# Altium footprint library JST SH connector.PcbLib: 29 footprints (part 2 of 2)
Each footprint in its own frame and in the unit in brackets; x right, y up, seen from the top. Pads: shape width x height; smd on the part's side, far side on the other; paste and mask are expansions set on the pad; w line width, h text height; cw(c..) or ccw(c..) is an arc to the next point about the centre after c.
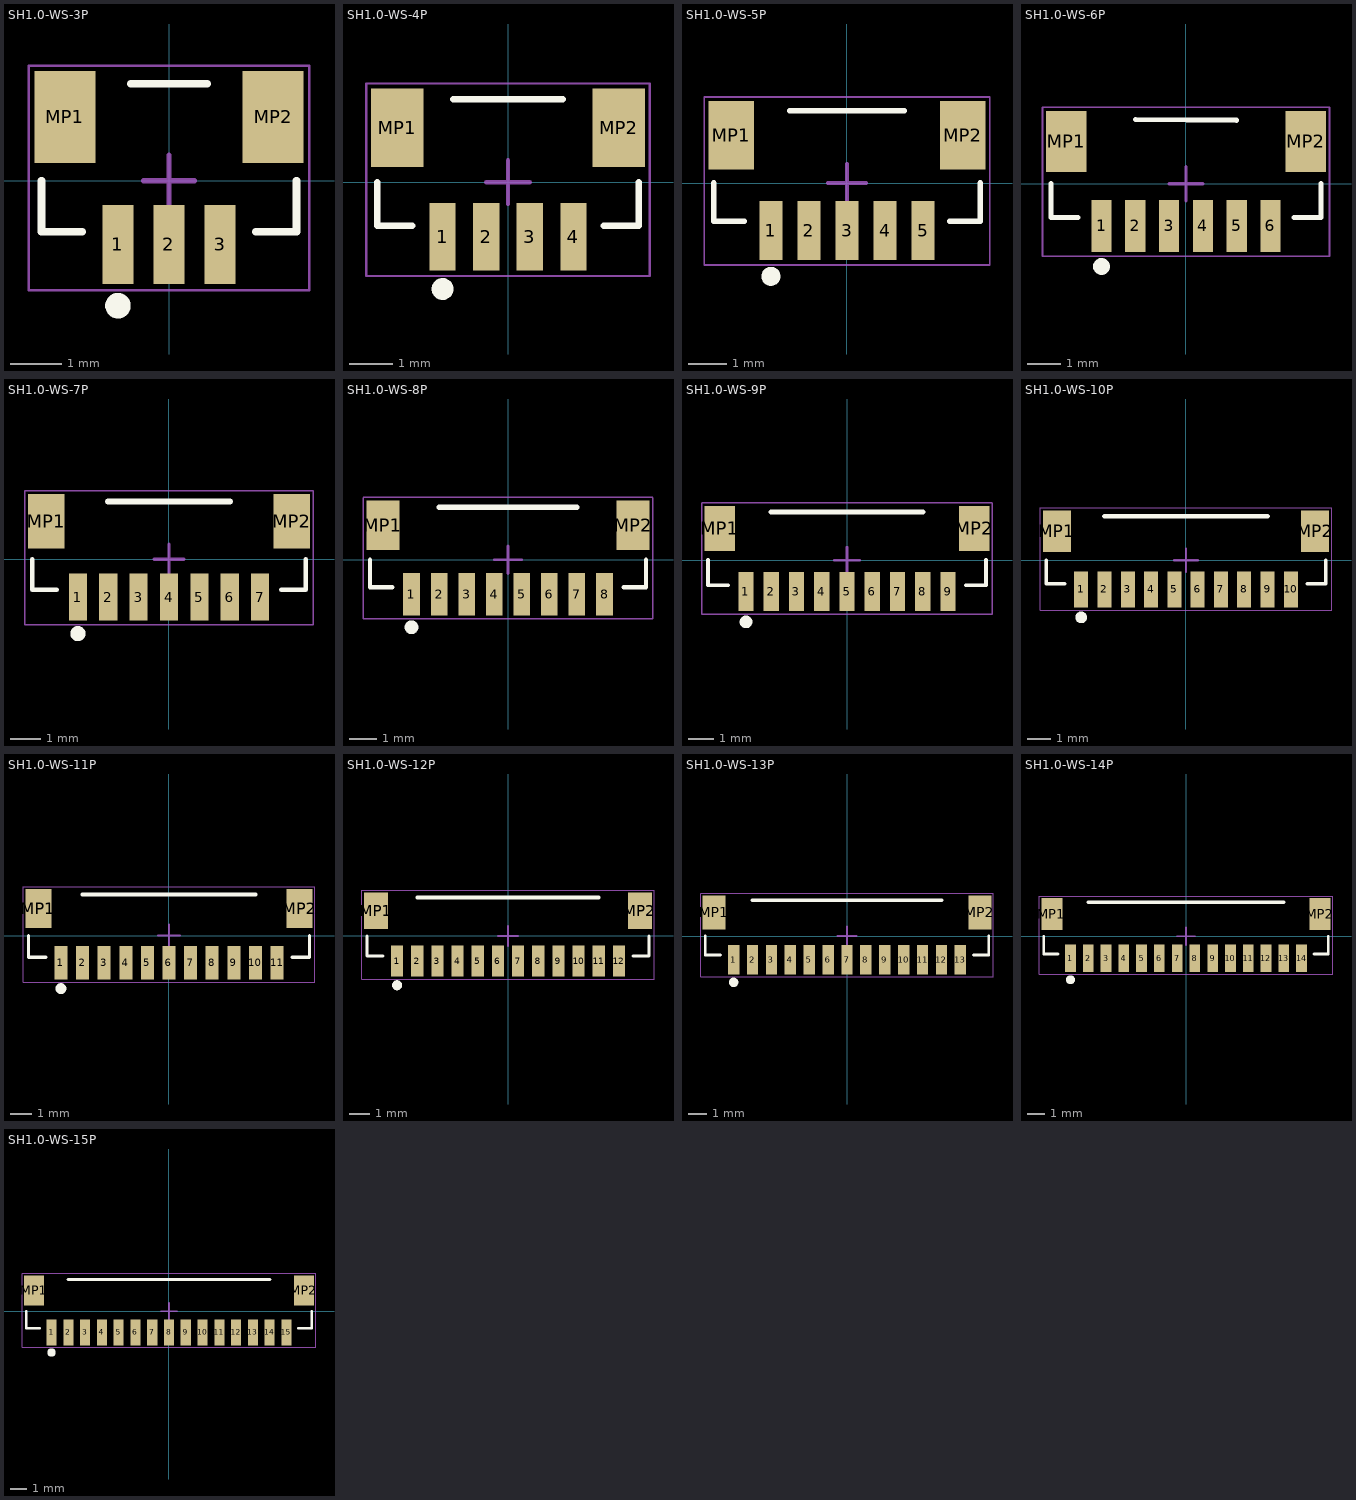
[diagram p1: the footprints below, top view; thin cyan lines are the x and y axes]

## SH1.0-WS-3P [mm]
pads (5):
  rect 0.6x1.55 smd: 1(-1,-1.25) 2(0,-1.25) 3(1,-1.25)
  rect 1.2x1.8 smd: MP1(-2.04,1.25) MP2(2.04,1.25)
Top Overlay:
  circle w0.25: c-1,-2.45 r0.125
  lines w0.15: -2.5,0 -2.5,-1 -1.7,-1 ; -0.75,1.9 0.75,1.9 ; 1.7,-1 2.5,-1 2.5,0
Mechanical 15:
  lines w0.05: -2.75,-2.149 2.75,-2.149 2.75,2.251 -2.75,2.251 -2.75,-2.149
  lines w0.1: -0.5,0 0.5,0 ; 0,-0.5 0,0.5
3D body "BM03B-SRSS-TB.STEP": height 4.3, standoff -0.02, extent -2.5,-1.7 2.5,1.9

## SH1.0-WS-4P [mm]
pads (6):
  rect 0.6x1.55 smd: 1(-1.5,-1.25) 2(-0.5,-1.25) 3(0.5,-1.25) 4(1.5,-1.25)
  rect 1.2x1.8 smd: MP1(-2.54,1.25) MP2(2.54,1.25)
Top Overlay:
  circle w0.25: c-1.5,-2.45 r0.125
  lines w0.15: -3,0 -3,-1 -2.2,-1 ; -1.25,1.9 1.25,1.9 ; 2.2,-1 3,-1 3,0
Mechanical 15:
  lines w0.05: -3.25,2.25 -3.25,-2.15 3.25,-2.15 3.25,2.25 ; -3.25,2.262 3.25,2.262
  lines w0.1: -0.5,0 0.5,0 ; 0,-0.5 0,0.5
3D body "BM04B-SRSS-TB.STEP": height 4.3, standoff -0.02, extent -3,-1.7 3,1.9

## SH1.0-WS-5P [mm]
pads (7):
  rect 0.6x1.55 smd: 1(-2,-1.25) 2(-1,-1.25) 3(0,-1.25) 4(1,-1.25) 5(2,-1.25)
  rect 1.2x1.8 smd: MP1(-3.04,1.25) MP2(3.04,1.25)
Top Overlay:
  circle w0.25: c-2,-2.45 r0.125
  lines w0.15: -3.5,0 -3.5,-1 -2.7,-1 ; -1.5,1.9 1.5,1.9 ; 2.7,-1 3.5,-1 3.5,0
Mechanical 15:
  lines w0.05: -3.75,2.25 -3.75,-2.15 3.75,-2.15 3.75,2.25 ; -3.75,2.262 3.75,2.262
  lines w0.1: -0.5,0 0.5,0 ; 0,-0.5 0,0.5
3D body "BM05B-SRSS-TB.STEP": height 4.3, standoff -0.02, extent -3.5,-1.7 3.5,1.9

## SH1.0-WS-6P [mm]
pads (8):
  rect 0.6x1.55 smd: 1(-2.5,-1.25) 2(-1.5,-1.25) 3(-0.5,-1.25) 4(0.5,-1.25) 5(1.5,-1.25) 6(2.5,-1.25)
  rect 1.2x1.8 smd: MP1(-3.54,1.25) MP2(3.54,1.25)
Top Overlay:
  circle w0.25: c-2.5,-2.45 r0.125
  lines w0.15: -4,0 -4,-1 -3.2,-1 ; -1.5,1.9 1.5,1.879 ; 3.2,-1 4,-1 4,0
Mechanical 15:
  lines w0.05: -4.25,2.25 -4.25,-2.15 4.25,-2.15 4.25,2.25 ; -4.25,2.262 4.25,2.262
  lines w0.1: -0.5,0 0.5,0 ; 0,-0.5 0,0.5
3D body "BM06B-SRSS-TB.STEP": height 4.3, standoff -0.02, extent -4,-1.71 4,1.889

## SH1.0-WS-7P [mm]
pads (9):
  rect 0.6x1.55 smd: 1(-3,-1.25) 2(-2,-1.25) 3(-1,-1.25) 4(0,-1.25) 5(1,-1.25) 6(2,-1.25) 7(3,-1.25)
  rect 1.2x1.8 smd: MP1(-4.04,1.25) MP2(4.04,1.25)
Top Overlay:
  circle w0.25: c-3,-2.45 r0.125
  lines w0.15: -4.5,0 -4.5,-1 -3.7,-1 ; 3.7,-1 4.5,-1 4.5,0
  lines w0.2: -2,1.9 2,1.9
Mechanical 15:
  lines w0.05: -4.75,2.25 -4.75,-2.15 4.75,-2.15 4.75,2.25 ; -4.75,2.262 4.75,2.262
  lines w0.1: -0.5,0 0.5,0 ; 0,-0.5 0,0.5
3D body "BM07B-SRSS-TB.STEP": height 4.3, standoff -0.02, extent -4.5,-1.7 4.5,1.9

## SH1.0-WS-8P [mm]
pads (10):
  rect 0.6x1.55 smd: 1(-3.5,-1.25) 2(-2.5,-1.25) 3(-1.5,-1.25) 4(-0.5,-1.25) 5(0.5,-1.25) 6(1.5,-1.25) 7(2.5,-1.25) 8(3.5,-1.25)
  rect 1.2x1.8 smd: MP1(-4.54,1.25) MP2(4.54,1.25)
Top Overlay:
  circle w0.25: c-3.5,-2.45 r0.125
  lines w0.15: -5,0 -5,-1 -4.2,-1 ; 4.2,-1 5,-1 5,0
  lines w0.2: -2.5,1.9 2.5,1.9
Mechanical 15:
  lines w0.05: -5.25,2.25 -5.25,-2.15 5.25,-2.15 5.25,2.25 ; -5.25,2.262 5.25,2.262
  lines w0.1: -0.5,0 0.5,0 ; 0,-0.5 0,0.5
3D body "BM08B-SRSS-TB.STEP": height 4.3, standoff -0.02, extent -5,-1.7 5,1.9

## SH1.0-WS-9P [mm]
pads (11):
  rect 0.6x1.55 smd: 1(-4,-1.25) 2(-3,-1.25) 3(-2,-1.25) 4(-1,-1.25) 5(0,-1.25) 6(1,-1.25) 7(2,-1.25) 8(3,-1.25) 9(4,-1.25)
  rect 1.2x1.8 smd: MP1(-5.04,1.25) MP2(5.04,1.25)
Top Overlay:
  circle w0.25: c-4,-2.45 r0.125
  lines w0.15: -5.5,0 -5.5,-1 -4.7,-1 ; 4.7,-1 5.5,-1 5.5,0
  lines w0.2: -3,1.9 3,1.9
Mechanical 15:
  lines w0.05: -5.75,2.25 -5.75,-2.15 5.75,-2.15 5.75,2.25 ; -5.75,2.262 5.75,2.262
  lines w0.1: -0.5,0 0.5,0 ; 0,-0.5 0,0.5
3D body "BM09B-SRSS-TB.STEP": height 4.3, standoff -0.02, extent -5.5,-1.7 5.5,1.9

## SH1.0-WS-10P [mm]
pads (12):
  rect 0.6x1.55 smd: 1(-4.5,-1.25) 2(-3.5,-1.25) 3(-2.5,-1.25) 4(-1.5,-1.25) 5(-0.5,-1.25) 6(0.5,-1.25) 7(1.5,-1.25) 8(2.5,-1.25) 9(3.5,-1.25) 10(4.5,-1.25)
  rect 1.2x1.8 smd: MP1(-5.54,1.25) MP2(5.54,1.25)
Top Overlay:
  circle w0.25: c-4.5,-2.45 r0.125
  lines w0.15: -6,0 -6,-1 -5.2,-1 ; 5.2,-1 6,-1 6,0
  lines w0.2: -3.5,1.9 3.5,1.9
Mechanical 15:
  lines w0.05: -6.25,-2.15 6.25,-2.15 6.25,2.25 ; -6.25,2.262 6.25,2.262 ; -6.25,-2.15 -6.25,2.25
  lines w0.1: -0.5,0 0.5,0 ; 0,-0.5 0,0.5
3D body "BM10B-SRSS-TB.STEP": height 4.3, standoff -0.02, extent -6,-1.7 6,1.9

## SH1.0-WS-11P [mm]
pads (13):
  rect 0.6x1.55 smd: 1(-5,-1.25) 2(-4,-1.25) 3(-3,-1.25) 4(-2,-1.25) 5(-1,-1.25) 6(0,-1.25) 7(1,-1.25) 8(2,-1.25) 9(3,-1.25) 10(4,-1.25) 11(5,-1.25)
  rect 1.2x1.8 smd: MP1(-6.04,1.25) MP2(6.04,1.25)
Top Overlay:
  circle w0.25: c-5,-2.45 r0.125
  lines w0.15: -6.5,0 -6.5,-1 -5.7,-1 ; 5.7,-1 6.5,-1 6.5,0
  lines w0.2: -4,1.9 4,1.9
Mechanical 15:
  lines w0.05: -6.75,2.25 -6.75,-2.15 6.75,-2.15 6.75,2.25 ; -6.75,2.262 6.75,2.262
  lines w0.1: -0.5,0 0.5,0 ; 0,-0.5 0,0.5
3D body "BM11B-SRSS-TB.STEP": height 4.3, standoff -0.02, extent -6.5,-1.7 6.5,1.9

## SH1.0-WS-12P [mm]
pads (14):
  rect 0.6x1.55 smd: 1(-5.5,-1.25) 2(-4.5,-1.25) 3(-3.5,-1.25) 4(-2.5,-1.25) 5(-1.5,-1.25) 6(-0.5,-1.25) 7(0.5,-1.25) 8(1.5,-1.25) 9(2.5,-1.25) 10(3.5,-1.25) 11(4.5,-1.25) 12(5.5,-1.25)
  rect 1.2x1.8 smd: MP1(-6.54,1.25) MP2(6.54,1.25)
Top Overlay:
  circle w0.25: c-5.5,-2.45 r0.125
  lines w0.15: -7,0 -7,-1 -6.2,-1 ; 6.2,-1 7,-1 7,0
  lines w0.2: -4.5,1.9 4.5,1.9
Mechanical 15:
  lines w0.05: -7.25,2.25 -7.25,-2.15 7.25,-2.15 7.25,2.25 ; -7.25,2.262 7.25,2.262
  lines w0.1: -0.5,0 0.5,0 ; 0,-0.5 0,0.5
3D body "BM12B-SRSS-TB.STEP": height 4.3, standoff -0.02, extent -7,-1.7 7,1.9

## SH1.0-WS-13P [mm]
pads (15):
  rect 0.6x1.55 smd: 1(-6,-1.25) 2(-5,-1.25) 3(-4,-1.25) 4(-3,-1.25) 5(-2,-1.25) 6(-1,-1.25) 7(0,-1.25) 8(1,-1.25) 9(2,-1.25) 10(3,-1.25) 11(4,-1.25) 12(5,-1.25) 13(6,-1.25)
  rect 1.2x1.8 smd: MP1(-7.04,1.25) MP2(7.04,1.25)
Top Overlay:
  circle w0.25: c-6,-2.45 r0.125
  lines w0.15: -7.5,0 -7.5,-1 -6.7,-1 ; 6.7,-1 7.5,-1 7.5,0
  lines w0.2: -5,1.9 5,1.9
Mechanical 15:
  lines w0.05: -7.75,2.25 -7.75,-2.15 7.75,-2.15 7.75,2.25 ; -7.75,2.262 7.75,2.262
  lines w0.1: -0.5,0 0.5,0 ; 0,-0.5 0,0.5
3D body "BM13B-SRSS-TB.STEP": height 4.3, standoff -0.02, extent -7.5,-1.7 7.5,1.9

## SH1.0-WS-14P [mm]
pads (16):
  rect 0.6x1.55 smd: 1(-6.5,-1.25) 2(-5.5,-1.25) 3(-4.5,-1.25) 4(-3.5,-1.25) 5(-2.5,-1.25) 6(-1.5,-1.25) 7(-0.5,-1.25) 8(0.5,-1.25) 9(1.5,-1.25) 10(2.5,-1.25) 11(3.5,-1.25) 12(4.5,-1.25) 13(5.5,-1.25) 14(6.5,-1.25)
  rect 1.2x1.8 smd: MP1(-7.54,1.25) MP2(7.54,1.25)
Top Overlay:
  circle w0.25: c-6.5,-2.45 r0.125
  lines w0.15: -8,0 -8,-1 -7.2,-1 ; 7.2,-1 8,-1 8,0
  lines w0.2: -5.5,1.9 5.5,1.9
Mechanical 15:
  lines w0.05: -8.25,2.25 -8.25,-2.15 8.25,-2.15 8.25,2.25 ; -8.25,2.262 8.25,2.262
  lines w0.1: -0.5,0 0.5,0 ; 0,-0.5 0,0.5
3D body "BM14B-SRSS-TB.STEP": height 4.3, standoff -0.02, extent -8,-1.7 8,1.9

## SH1.0-WS-15P [mm]
pads (17):
  rect 0.6x1.55 smd: 1(-7,-1.25) 2(-6,-1.25) 3(-5,-1.25) 4(-4,-1.25) 5(-3,-1.25) 6(-2,-1.25) 7(-1,-1.25) 8(0,-1.25) 9(1,-1.25) 10(2,-1.25) 11(3,-1.25) 12(4,-1.25) 13(5,-1.25) 14(6,-1.25) 15(7,-1.25)
  rect 1.2x1.8 smd: MP1(-8.04,1.25) MP2(8.04,1.25)
Top Overlay:
  circle w0.25: c-7,-2.45 r0.125
  lines w0.15: -8.5,0 -8.5,-1 -7.7,-1 ; 7.7,-1 8.5,-1 8.5,0
  lines w0.2: -6,1.9 6,1.9
Mechanical 15:
  lines w0.05: -8.75,2.25 -8.75,-2.15 8.75,-2.15 8.75,2.25 ; -8.75,2.262 8.75,2.262
  lines w0.1: -0.5,0 0.5,0 ; 0,-0.5 0,0.5
3D body "BM15B-SRSS-TB.STEP": height 4.3, standoff -0.02, extent -8.5,-1.7 8.5,1.9